# EAGLE library part 5306 (library memory)
MEMORY
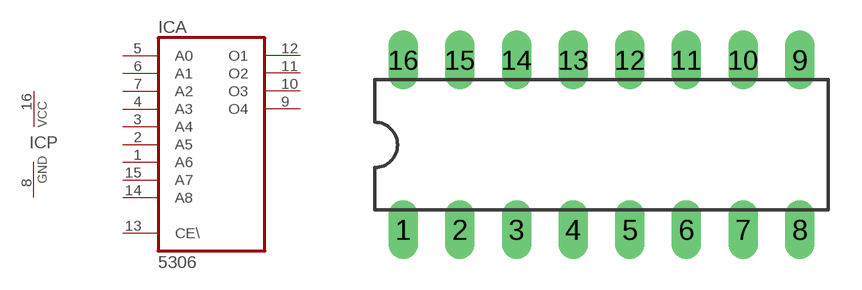
[diagram p23: symbol with the pads of DIL16; footprint DIL16]

Designator prefix IC; gates A=5306 P=PWRN

## 5306  [DIL16]
1  A:A6  in
2  A:A5  in
3  A:A4  in
4  A:A3  in
5  A:A0  in
6  A:A1  in
7  A:A2  in
8  P:GND  pwr
9  A:O4  hiz
10  A:O3  hiz
11  A:O2  hiz
12  A:O1  hiz
13  A:CE\  in
14  A:A8  in
15  A:A7  in
16  P:VCC  pwr

## Footprint DIL16 (pad centres in mm)
Dual In Line Package
drill 0.813 long: 1 -8.89,-3.81; 2 -6.35,-3.81; 3 -3.81,-3.81; 4 -1.27,-3.81; 5 1.27,-3.81; 6 3.81,-3.81; 7 6.35,-3.81; 8 8.89,-3.81; 9 8.89,3.81; 10 6.35,3.81; 11 3.81,3.81; 12 1.27,3.81; 13 -1.27,3.81; 14 -3.81,3.81; 15 -6.35,3.81; 16 -8.89,3.81